# Altium footprint library ICs.PcbLib: 31 footprints (part 1 of 2)
Each footprint in its own frame and in the unit in brackets; x right, y up, seen from the top. Pads: shape width x height; smd on the part's side, far side on the other; paste and mask are expansions set on the pad; w line width, h text height; cw(c..) or ccw(c..) is an arc to the next point about the centre after c.
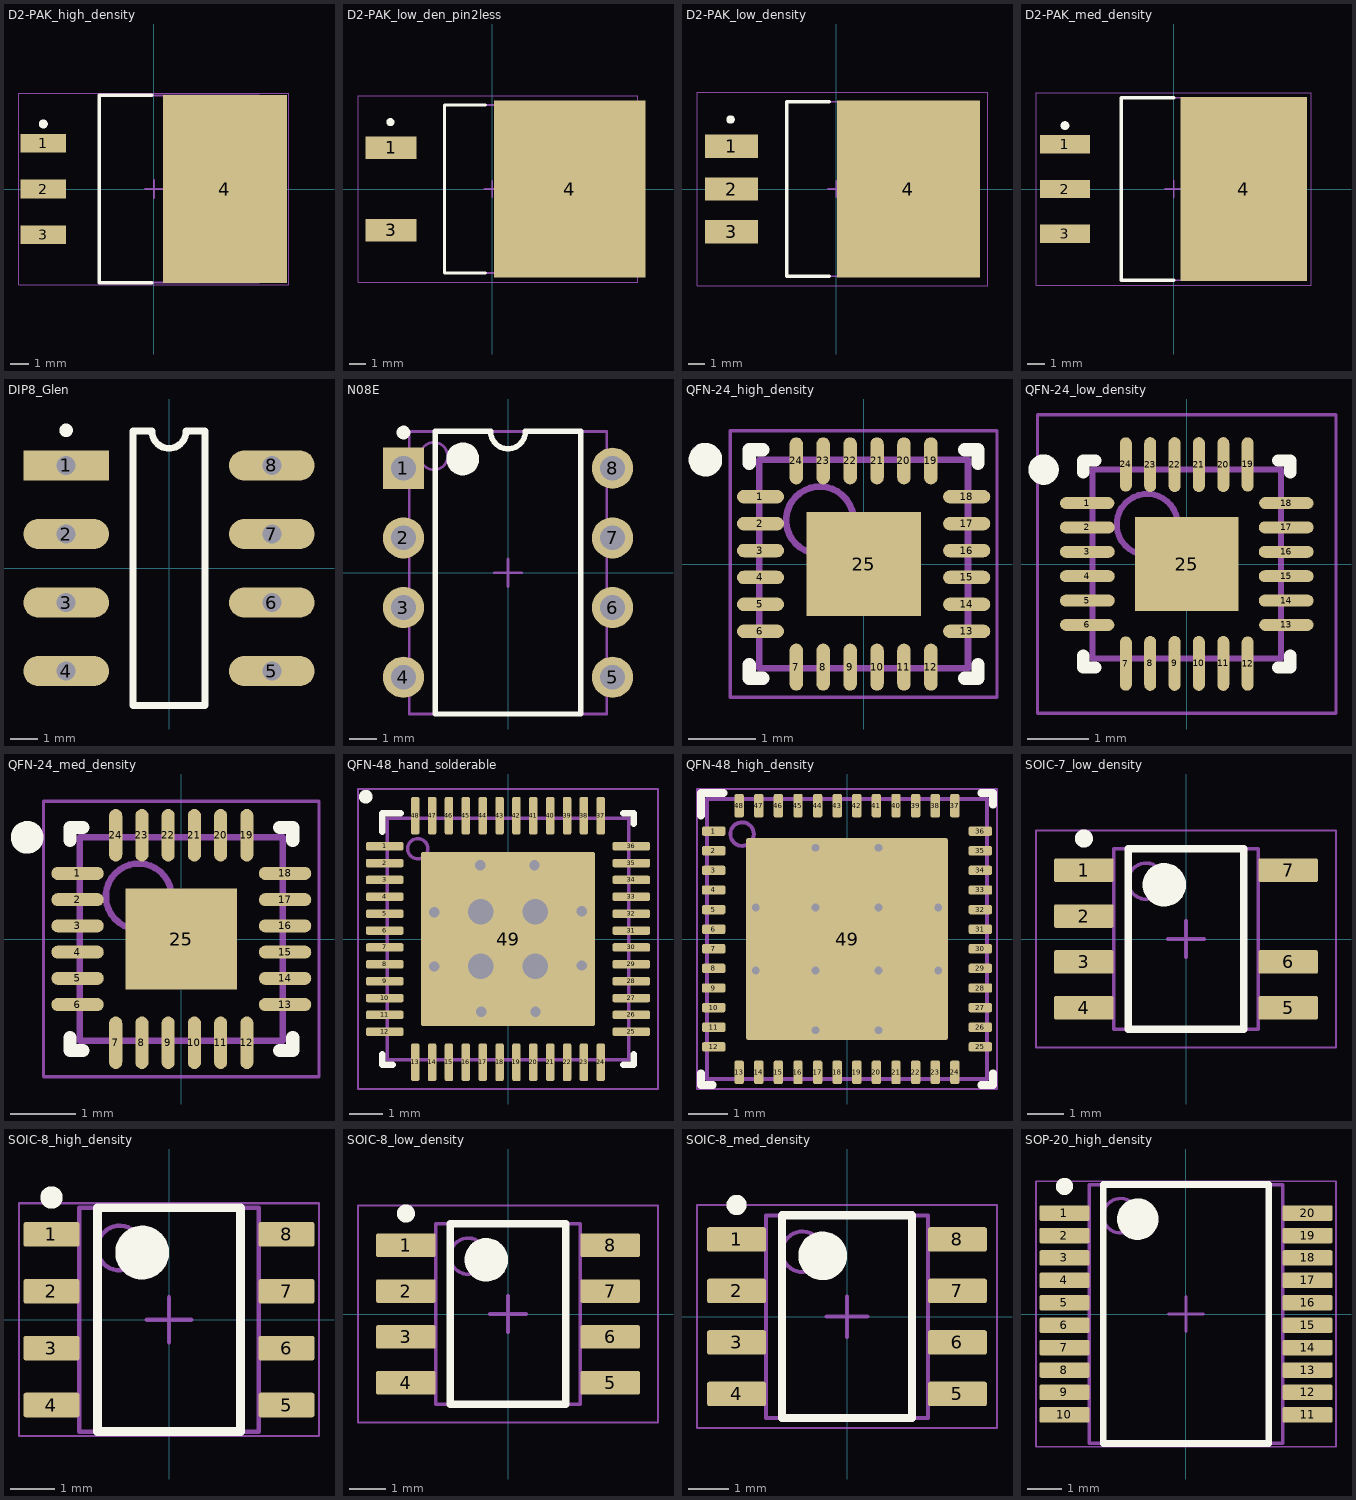
[diagram p0: the footprints below, top view; thin cyan lines are the x and y axes]

## D2-PAK_high_density [mm] "D2-PAK, 3-Leads, Body 10.41x8.89mm, Pitch 2.54mm, IPC High Density"
height 4.64
pads (4):
  rect 2.55x1.05 smd: 1(-6.15,2.54) 2(-6.15,0) 3(-6.15,-2.54)
  rect 6.9x10.45 smd: 4(3.95,0)
Top Overlay:
  circle w0.25: c-6.15,3.615 r0.125
  lines w0.2: -0.127,-5.2 -3.05,-5.2 -3.05,5.2 -0.127,5.2
Mechanical 13:
  lines w0.1: -3.05,-5.2 5.84,-5.2 5.84,5.2 -3.05,5.2 -3.05,-5.2
  text ".Designator" at -1.651,-0.508 h1.2
Mechanical 15:
  lines w0.05: -7.5,-5.325 7.5,-5.325 7.5,5.325 -7.5,5.325 -7.5,-5.325
  lines w0.1: -0.5,0 0.5,0 ; 0,-0.5 0,0.5
3D body "KTT0003B_L.step": height 4.64, standoff 0, extent -6.825,-5.2 7.525,5.2

## D2-PAK_low_den_pin2less [mil] "D2-PAK, 3-Leads, Body 10.41x8.89mm, Pitch 2.54mm, IPC Low Density"
height 182.68
pads (3):
  rect 124.02x55 smd: 1(-246.06,100) 3(-246.06,-100)
  rect 370x430 smd: 4(189,0)
Top Overlay:
  circle w9.84: c-248,163 r4.92
  lines w7.87: -16,-204.72 -116.14,-204.72 -116.14,204.72 -16,204.72
Mechanical 13:
  lines w3.94: -116.14,-204.72 -116.14,204.72 233.86,204.72 233.86,-204.72 -116.14,-204.72
  text ".Designator" at -65,-20 h47.24
Mechanical 15:
  lines w1.97: -326.77,-227.36 -326.77,227.36 355,227.36 355,-227.36 -326.77,-227.36
  lines w3.94: -19.68,0 19.69,0 ; 0,-19.68 0,19.68
3D body "KTT0003B_M.step": height 182.68, standoff 0, extent -262.8,-204.72 302.17,204.72

## D2-PAK_low_density [mm] "D2-PAK, 3-Leads, Body 10.41x8.89mm, Pitch 2.54mm, IPC Low Density"
height 4.64
pads (4):
  rect 3.15x1.397 smd: 1(-6.25,2.54) 2(-6.25,0) 3(-6.25,-2.54)
  rect 8.516x10.55 smd: 4(4.304,0)
Top Overlay:
  circle w0.25: c-6.299,4.14 r0.125
  lines w0.2: -0.406,-5.2 -2.95,-5.2 -2.95,5.2 -0.406,5.2
Mechanical 13:
  lines w0.1: -2.95,-5.2 -2.95,5.2 5.94,5.2 5.94,-5.2 -2.95,-5.2
  text ".Designator" at -1.651,-0.508 h1.2
Mechanical 15:
  lines w0.05: -8.3,-5.775 -8.3,5.775 9.017,5.775 9.017,-5.775 -8.3,-5.775
  lines w0.1: -0.5,0 0.5,0 ; 0,-0.5 0,0.5
3D body "KTT0003B_M.step": height 4.64, standoff 0, extent -6.675,-5.2 7.675,5.2

## D2-PAK_med_density [mm] "D2-PAK, 3-Leads, Body 10.41x8.89mm, Pitch 2.54mm, IPC Medium Density"
height 4.64
pads (4):
  rect 2.85x1.05 smd: 1(-6.2,2.54) 2(-6.2,0) 3(-6.2,-2.54)
  rect 7.2x10.5 smd: 4(4,0)
Top Overlay:
  circle w0.25: c-6.2,3.615 r0.125
  lines w0.2: 0,-5.2 -3,-5.2 -3,5.2 0,5.2
Mechanical 1:
  text ".Designator" at -1.651,-0.508 h1.2
Mechanical 13:
  lines w0.1: -3,-5.2 5.89,-5.2 5.89,5.2 -3,5.2 -3,-5.2
Mechanical 15:
  lines w0.05: -7.85,-5.5 7.85,-5.5 7.85,5.5 -7.85,5.5 -7.85,-5.5
  lines w0.1: -0.5,0 0.5,0 ; 0,-0.5 0,0.5
3D body "KTT0003B_N.step": height 4.64, standoff 0, extent -6.775,-5.2 7.575,5.2

## DIP8_Glen [mil] "Glen's hand-solderable DIP footprint, 300 mil line spacing"
pads (8):
  rect 125x44 hole 28: 1(-150,150)
  oval 125x44 hole 28: 2(-150,50) 3(-150,-50) 4(-150,-150) 5(150,-150) 6(150,-50) 7(150,50) 8(150,150)
Top Overlay:
  circle w9.84: c-150,201.18 r4.92
  lines w10: -52.5,-200 -52.5,200 -25,200 ccw(c0,200) 25,200 52.5,200 52.5,-200 -52.5,-200
  text ".Comment" at 15,-179 h42
3D body: height 200, standoff 20.08, extent -129.92,-199.8 129.92,199.8
3D body: height 104.72, standoff 0, extent -155.31,130.31 -144.69,169.69
3D body: height 115.35, standoff 104.72, extent -155.31,130.31 -129.92,169.69
3D body: height 0, standoff -62.99, extent -155.31,135.83 -144.69,164.17
3D body: height 104.72, standoff 0, extent -155.31,30.32 -144.69,69.69
3D body: height 115.35, standoff 104.72, extent -155.31,30.32 -129.92,69.69
3D body: height 0, standoff -62.99, extent -155.31,35.83 -144.69,64.17
3D body: height 104.72, standoff 0, extent -155.31,-69.69 -144.69,-30.32
3D body: height 115.35, standoff 104.72, extent -155.31,-69.69 -129.92,-30.32
3D body: height 0, standoff -62.99, extent -155.31,-64.17 -144.69,-35.83
3D body: height 104.72, standoff 0, extent -155.31,-169.69 -144.69,-130.31
3D body: height 115.35, standoff 104.72, extent -155.31,-169.69 -129.92,-130.31
3D body: height 0, standoff -62.99, extent -155.31,-164.17 -144.69,-135.83
3D body: height 104.72, standoff 0, extent 144.69,-169.69 155.31,-130.31
3D body: height 115.35, standoff 104.72, extent 129.92,-169.69 155.31,-130.31
3D body: height 0, standoff -62.99, extent 144.69,-164.17 155.31,-135.83
3D body: height 104.72, standoff 0, extent 144.69,-69.69 155.31,-30.32
3D body: height 115.35, standoff 104.72, extent 129.92,-69.69 155.31,-30.32
3D body: height 0, standoff -62.99, extent 144.69,-64.17 155.31,-35.83
3D body: height 104.72, standoff 0, extent 144.69,30.32 155.31,69.69
3D body: height 115.35, standoff 104.72, extent 129.92,30.32 155.31,69.69
3D body: height 0, standoff -62.99, extent 144.69,35.83 155.31,64.17
3D body: height 104.72, standoff 0, extent 144.69,130.31 155.31,169.69
3D body: height 115.35, standoff 104.72, extent 129.92,130.31 155.31,169.69
3D body: height 0, standoff -62.99, extent 144.69,135.83 155.31,164.17

## N08E [mm] "DIP, 8-Pin, Row Spacing 7.62 mm, Pitch 2.54 mm"
height 5.34
pads (8):
  rect 1.5x1.5 hole 0.9: 1(-3.81,3.81)
  round 1.5 hole 0.9: 2(-3.81,1.27) 3(-3.81,-1.27) 4(-3.81,-3.81) 5(3.81,-3.81) 6(3.81,-1.27) 7(3.81,1.27) 8(3.81,3.81)
Top Overlay:
  circle w0.25: c-3.81,5.11 r0.125
  circle w0.6: c-1.65,4.15 r0.3
  lines w0.2: -2.65,-5.15 -2.65,5.15 -0.635,5.15 ccw(c0,5.15) 0.635,5.15 2.65,5.15 2.65,-5.15 -2.65,-5.15
Mechanical 13:
  circle w0.1: c-2.7,4.25 r0.5
  lines w0.1: -3.6,-5.15 -3.6,5.15 3.6,5.15 3.6,-5.15 -3.6,-5.15
Mechanical 15:
  lines w0.1: -0.5,0 0.5,0 ; 0,-0.5 0,0.5
3D body: height 5.33, standoff 0, extent -3.6,-5.15 3.6,5.15

## QFN-24_high_density [mm] "QFN, 24-Leads, Body 3.1x3.1mm, Pitch 0.40mm, Thermal Pad 1.54x1.70mm, IPC High Density"
height 1.05
pads (25):
  oval 0.7x0.2 smd: 1(-1.532,1) 2(-1.532,0.6) 3(-1.532,0.2) 4(-1.532,-0.2) 5(-1.532,-0.6) 6(-1.532,-1) 13(1.532,-1) 14(1.532,-0.6) 15(1.532,-0.2) 16(1.532,0.2) 17(1.532,0.6) 18(1.532,1)
  oval 0.2x0.7 smd: 7(-1,-1.532) 8(-0.6,-1.532) 9(-0.2,-1.532) 10(0.2,-1.532) 11(0.6,-1.532) 12(1,-1.532) 19(1,1.532) 20(0.6,1.532) 21(0.2,1.532) 22(-0.2,1.532) 23(-0.6,1.532) 24(-1,1.532)
  rect 1.7x1.54 smd: 25(0,0)
Top Overlay:
  circle w0.25: c-2.35,1.55 r0.125
  lines w0.2: -1.7,-1.5 -1.7,-1.7 -1.5,-1.7 ; -1.7,1.5 -1.7,1.7 -1.5,1.7 ; 1.5,-1.7 1.7,-1.7 1.7,-1.5 ; 1.5,1.7 1.7,1.7 1.7,1.5
Mechanical 13:
  circle w0.1: c-0.65,0.65 r0.5
  lines w0.1: -1.55,-1.55 1.55,-1.55 1.55,1.55 -1.55,1.55 -1.55,-1.55
Mechanical 15:
  lines w0.05: -1.982,-1.982 1.982,-1.982 1.982,1.982 -1.982,1.982 -1.982,-1.982
  lines w0.1: -0.5,0 0.5,0 ; 0,-0.5 0,0.5
3D body "QFN40P300X300X105_HS-25L.step": height 1.05, standoff 0, extent -1.551,-1.551 1.551,1.551

## QFN-24_low_density [mm] "QFN, 24-Leads, Body 3.1x3.1mm, Pitch 0.40mm, Thermal Pad 1.54x1.70mm, IPC Low Density"
height 1.05
pads (25):
  oval 0.892x0.196 smd: 1(-1.635,1) 6(-1.635,-1) 13(1.635,-1) 18(1.635,1)
  oval 0.9x0.196 smd: 2(-1.632,0.6) 3(-1.632,0.2) 4(-1.632,-0.2) 5(-1.632,-0.6) 14(1.632,-0.6) 15(1.632,-0.2) 16(1.632,0.2) 17(1.632,0.6)
  oval 0.196x0.892 smd: 7(-1,-1.635) 12(1,-1.635) 19(1,1.635) 24(-1,1.635)
  oval 0.196x0.9 smd: 8(-0.6,-1.632) 9(-0.2,-1.632) 10(0.2,-1.632) 11(0.6,-1.632) 20(0.6,1.632) 21(0.2,1.632) 22(-0.2,1.632) 23(-0.6,1.632)
  rect 1.7x1.54 smd: 25(0,0)
Top Overlay:
  circle w0.25: c-2.35,1.55 r0.125
  lines w0.2: -1.7,-1.5 -1.7,-1.7 -1.5,-1.7 ; -1.7,1.5 -1.7,1.7 -1.5,1.7 ; 1.5,-1.7 1.7,-1.7 1.7,-1.5 ; 1.5,1.7 1.7,1.7 1.7,1.5
Mechanical 13:
  circle w0.1: c-0.65,0.65 r0.5
  lines w0.1: -1.55,-1.55 1.55,-1.55 1.55,1.55 -1.55,1.55 -1.55,-1.55
Mechanical 15:
  lines w0.05: -2.45,-2.45 2.45,-2.45 2.45,2.45 -2.45,2.45 -2.45,-2.45
  lines w0.1: -0.5,0 0.5,0 ; 0,-0.5 0,0.5
3D body "QFN40P300X300X105_HS-25L.step": height 1.05, standoff 0, extent -1.551,-1.551 1.551,1.551

## QFN-24_med_density [mm] "QFN, 24-Leads, Body 3.1x3.1mm, Pitch 0.40mm, Thermal Pad 1.54x1.70mm, IPC Medium Density"
height 1.05
pads (25):
  oval 0.8x0.2 smd: 1(-1.582,1) 2(-1.582,0.6) 3(-1.582,0.2) 4(-1.582,-0.2) 5(-1.582,-0.6) 6(-1.582,-1) 13(1.582,-1) 14(1.582,-0.6) 15(1.582,-0.2) 16(1.582,0.2) 17(1.582,0.6) 18(1.582,1)
  oval 0.2x0.8 smd: 7(-1,-1.582) 8(-0.6,-1.582) 9(-0.2,-1.582) 10(0.2,-1.582) 11(0.6,-1.582) 12(1,-1.582) 19(1,1.582) 20(0.6,1.582) 21(0.2,1.582) 22(-0.2,1.582) 23(-0.6,1.582) 24(-1,1.582)
  rect 1.7x1.54 smd: 25(0,0)
Top Overlay:
  circle w0.25: c-2.35,1.55 r0.125
  lines w0.2: -1.7,-1.5 -1.7,-1.7 -1.5,-1.7 ; -1.7,1.5 -1.7,1.7 -1.5,1.7 ; 1.5,-1.7 1.7,-1.7 1.7,-1.5 ; 1.5,1.7 1.7,1.7 1.7,1.5
Mechanical 13:
  circle w0.1: c-0.65,0.65 r0.5
  lines w0.1: -1.55,-1.55 -1.55,1.55 1.55,1.55 1.55,-1.55 -1.55,-1.55
Mechanical 15:
  lines w0.05: -2.1,-2.1 -2.1,2.1 2.1,2.1 2.1,-2.1 -2.1,-2.1
  lines w0.1: -0.5,0 0.5,0 ; 0,-0.5 0,0.5
3D body "QFN40P300X300X105_HS-25L.step": height 1.05, standoff 0, extent -1.551,-1.551 1.551,1.551

## QFN-48_hand_solderable [mm] "QFN, 48-Leads, Body 7x7mm, Pitch 0.5mm, Thermal Pad 5.15X5.15mm, TI recommended"
height 1
pads (49):
  rrect42% 1.108x0.251 smd paste+0.051: 1(-3.654,2.75) 2(-3.654,2.25) 3(-3.654,1.75) 4(-3.654,1.25) 5(-3.654,0.75) 6(-3.654,0.25) 7(-3.654,-0.25) 8(-3.654,-0.75) 9(-3.654,-1.25) 10(-3.654,-1.75) 11(-3.654,-2.25) 12(-3.654,-2.75) 25(3.654,-2.75) 26(3.654,-2.25) 27(3.654,-1.75) 28(3.654,-1.25) 29(3.654,-0.75) 30(3.654,-0.25) 31(3.654,0.25) 32(3.654,0.75) 33(3.654,1.25) 34(3.654,1.75) 35(3.654,2.25) 36(3.654,2.75)
  rrect42% 0.251x1.108 smd paste+0.051: 13(-2.75,-3.654) 14(-2.25,-3.654) 15(-1.75,-3.654) 16(-1.25,-3.654) 17(-0.75,-3.654) 18(-0.25,-3.654) 19(0.25,-3.654) 20(0.75,-3.654) 21(1.25,-3.654) 22(1.75,-3.654) 23(2.25,-3.654) 24(2.75,-3.654) 37(2.75,3.654) 38(2.25,3.654) 39(1.75,3.654) 40(1.25,3.654) 41(0.75,3.654) 42(0.25,3.654) 43(-0.25,3.654) 44(-0.75,3.654) 45(-1.25,3.654) 46(-1.75,3.654) 47(-2.25,3.654) 48(-2.75,3.654)
  rrect2% 5.15x5.15 smd paste-2.6: 49(0,0)
via 0.813,-2.159 diameter 0.61 hole 0.305
via -0.794,-2.159 diameter 0.61 hole 0.305
via 2.184,-0.787 diameter 0.61 hole 0.305
via 0.804,-0.804 diameter 1.27 hole 0.762
via -0.804,-0.804 diameter 1.27 hole 0.762
via -2.184,-0.813 diameter 0.61 hole 0.305
via 2.184,0.82 diameter 0.61 hole 0.305
via 0.804,0.804 diameter 1.27 hole 0.762
via -0.804,0.804 diameter 1.27 hole 0.762
via -2.184,0.794 diameter 0.61 hole 0.305
via 0.787,2.184 diameter 0.61 hole 0.305
via -0.82,2.184 diameter 0.61 hole 0.305
Top Overlay:
  circle w0.254: c-4.216,4.216 r0.076
  lines w0.2: -3.725,-3.425 -3.725,-3.725 -3.425,-3.725 ; -3.725,3.188 -3.725,3.725 -3.188,3.725 ; 3.425,-3.725 3.725,-3.725 3.725,-3.425 ; 3.425,3.725 3.725,3.725 3.725,3.425
Top Paste:
  region: -0.903,-0.903 -2.31,-0.903 -2.31,-2.31 -0.903,-2.31
  rectangle: 0.904,-2.31 2.311,-0.903
  rectangle: -0.703,-2.31 0.704,-0.903
  rectangle: -0.703,0.904 0.704,2.311
  rectangle: 0.904,0.904 2.311,2.311
  region: -0.903,2.311 -2.31,2.311 -2.31,0.904 -0.903,0.904
  region: -0.903,0.704 -2.31,0.704 -2.31,-0.703 -0.903,-0.703
  rectangle: 0.904,-0.703 2.311,0.704
  rectangle: -0.703,-0.703 0.704,0.704
Mechanical 13:
  circle w0.1: c-2.675,2.675 r0.3
  lines w0.1: -3.575,-3.575 3.575,-3.575 3.575,3.575 -3.575,3.575 -3.575,-3.575
  text ".Designator" at -1.854,-0.508 h1.02
Mechanical 15:
  lines w0.05: -4.445,-4.445 -4.445,4.445 4.445,4.445 4.445,-4.445 -4.445,-4.445
  lines w0.1: -0.5,0 0.5,0 ; 0,-0.5 0,0.5
3D body: height 1, standoff 0, extent -3.575,-3.575 3.575,3.575
3D body: height 1.01, standoff 0.5, extent -2.974,2.376 -2.376,2.974

## QFN-48_high_density [mm] "QFN, 48-Leads, Body 7x7mm, Pitch 0.5mm, Thermal Pad 5.15X5.15mm, TI recommended"
height 1
pads (49):
  rrect42% 0.6x0.24 smd: 1(-3.4,2.75) 2(-3.4,2.25) 3(-3.4,1.75) 4(-3.4,1.25) 5(-3.4,0.75) 6(-3.4,0.25) 7(-3.4,-0.25) 8(-3.4,-0.75) 9(-3.4,-1.25) 10(-3.4,-1.75) 11(-3.4,-2.25) 12(-3.4,-2.75) 25(3.4,-2.75) 26(3.4,-2.25) 27(3.4,-1.75) 28(3.4,-1.25) 29(3.4,-0.75) 30(3.4,-0.25) 31(3.4,0.25) 32(3.4,0.75) 33(3.4,1.25) 34(3.4,1.75) 35(3.4,2.25) 36(3.4,2.75)
  rrect42% 0.24x0.6 smd: 13(-2.75,-3.4) 14(-2.25,-3.4) 15(-1.75,-3.4) 16(-1.25,-3.4) 17(-0.75,-3.4) 18(-0.25,-3.4) 19(0.25,-3.4) 20(0.75,-3.4) 21(1.25,-3.4) 22(1.75,-3.4) 23(2.25,-3.4) 24(2.75,-3.4) 37(2.75,3.4) 38(2.25,3.4) 39(1.75,3.4) 40(1.25,3.4) 41(0.75,3.4) 42(0.25,3.4) 43(-0.25,3.4) 44(-0.75,3.4) 45(-1.25,3.4) 46(-1.75,3.4) 47(-2.25,3.4) 48(-2.75,3.4)
  rrect2% 5.15x5.15 smd paste-2.6: 49(0,0)
via -0.804,2.325 diameter 0.5 hole 0.2
via 0.804,2.325 diameter 0.5 hole 0.2
via -2.325,0.804 diameter 0.5 hole 0.2
via -0.804,0.804 diameter 0.5 hole 0.2
via 0.804,0.804 diameter 0.5 hole 0.2
via 2.325,0.804 diameter 0.5 hole 0.2
via -2.325,-0.804 diameter 0.5 hole 0.2
via -0.804,-0.804 diameter 0.5 hole 0.2
via 0.804,-0.804 diameter 0.5 hole 0.2
via 2.325,-0.804 diameter 0.5 hole 0.2
via -0.804,-2.325 diameter 0.5 hole 0.2
via 0.804,-2.325 diameter 0.5 hole 0.2
Top Overlay:
  lines w0.2: -3.725,-3.425 -3.725,-3.725 -3.425,-3.725 ; -3.725,3.15 -3.725,3.725 -3.15,3.725 ; 3.425,-3.725 3.725,-3.725 3.725,-3.425 ; 3.425,3.725 3.725,3.725 3.725,3.425
Top Paste:
  rectangle: -0.703,-0.703 0.704,0.704
  rectangle: 0.904,-0.703 2.311,0.704
  region: -0.903,0.704 -2.31,0.704 -2.31,-0.703 -0.903,-0.703
  region: -0.903,2.311 -2.31,2.311 -2.31,0.904 -0.903,0.904
  rectangle: 0.904,0.904 2.311,2.311
  rectangle: -0.703,0.904 0.704,2.311
  rectangle: -0.703,-2.31 0.704,-0.903
  rectangle: 0.904,-2.31 2.311,-0.903
  region: -0.903,-0.903 -2.31,-0.903 -2.31,-2.31 -0.903,-2.31
Mechanical 1:
  text ".Designator" at -1.854,-0.508 h1.02
Mechanical 13:
  circle w0.1: c-2.675,2.675 r0.3
  lines w0.1: -3.575,-3.575 -3.575,3.575 3.575,3.575 3.575,-3.575 -3.575,-3.575
Mechanical 15:
  lines w0.05: -3.825,-3.825 3.825,-3.825 3.825,3.825 -3.825,3.825 -3.825,-3.825
  lines w0.1: -0.5,0 0.5,0 ; 0,-0.5 0,0.5
3D body: height 1.01, standoff 0.5, extent -2.974,2.376 -2.376,2.974
3D body: height 1, standoff 0, extent -3.575,-3.575 3.575,3.575

## SOIC-7_low_density [mm] "SOIC, 8-Leads, Body 5x4mm, Pitch 1.27mm, IPC Low Density"
height 1.75
pads (7):
  rrect15% 1.65x0.65 smd: 1(-2.825,1.905) 2(-2.825,0.635) 3(-2.825,-0.635) 4(-2.825,-1.905) 5(2.825,-1.905) 6(2.825,-0.635) 7(2.825,1.905)
Top Overlay:
  circle w0.25: c-2.825,2.78 r0.125
  circle w0.6: c-0.6,1.5 r0.3
  lines w0.2: -1.6,-2.5 -1.6,2.5 1.6,2.5 1.6,-2.5 -1.6,-2.5
Mechanical 1:
  text ".Designator" at -1.397,-0.254 h0.6
Mechanical 13:
  circle w0.1: c-1.1,1.6 r0.5
  lines w0.1: -2,-2.5 -2,2.5 2,2.5 2,-2.5 -2,-2.5
Mechanical 15:
  lines w0.05: -4.15,-3 -4.15,3 4.15,3 4.15,-3 -4.15,-3
  lines w0.1: -0.5,0 0.5,0 ; 0,-0.5 0,0.5
3D body "SOIC-8akaD0008AakaM08A.stp": height 1.63, standoff 0, extent -3,-2.45 3,2.45

## SOIC-8_high_density [mm] "SOIC, 8-Leads, Body 5x4mm, Pitch 1.27mm, IPC High Density"
height 1.75
pads (8):
  rrect18% 1.25x0.55 smd: 1(-2.625,1.905) 2(-2.625,0.635) 3(-2.625,-0.635) 4(-2.625,-1.905) 5(2.625,-1.905) 6(2.625,-0.635) 7(2.625,0.635) 8(2.625,1.905)
Top Overlay:
  circle w0.25: c-2.625,2.73 r0.125
  circle w0.6: c-0.6,1.5 r0.3
  lines w0.2: -1.6,-2.5 -1.6,2.5 1.6,2.5 1.6,-2.5 -1.6,-2.5
Mechanical 1:
  text ".Designator" at -1.397,-0.254 h0.6
Mechanical 13:
  circle w0.1: c-1.1,1.6 r0.5
  lines w0.1: -2,-2.5 -2,2.5 2,2.5 2,-2.5 -2,-2.5
Mechanical 15:
  lines w0.05: -3.35,-2.6 -3.35,2.6 3.35,2.6 3.35,-2.6 -3.35,-2.6
  lines w0.1: -0.5,0 0.5,0 ; 0,-0.5 0,0.5
3D body "SOIC-8akaD0008AakaM08A.stp": height 1.63, standoff 0, extent -3,-2.45 3,2.45

## SOIC-8_low_density [mm] "SOIC, 8-Leads, Body 5x4mm, Pitch 1.27mm, IPC Low Density"
height 1.75
pads (8):
  rrect15% 1.65x0.65 smd: 1(-2.825,1.905) 2(-2.825,0.635) 3(-2.825,-0.635) 4(-2.825,-1.905) 5(2.825,-1.905) 6(2.825,-0.635) 7(2.825,0.635) 8(2.825,1.905)
Top Overlay:
  circle w0.25: c-2.825,2.78 r0.125
  circle w0.6: c-0.6,1.5 r0.3
  lines w0.2: -1.6,-2.5 -1.6,2.5 1.6,2.5 1.6,-2.5 -1.6,-2.5
Mechanical 1:
  text ".Designator" at -1.397,-0.254 h0.6
Mechanical 13:
  circle w0.1: c-1.1,1.6 r0.5
  lines w0.1: -2,-2.5 -2,2.5 2,2.5 2,-2.5 -2,-2.5
Mechanical 15:
  lines w0.05: -4.15,-3 -4.15,3 4.15,3 4.15,-3 -4.15,-3
  lines w0.1: -0.5,0 0.5,0 ; 0,-0.5 0,0.5
3D body "SOIC-8akaD0008AakaM08A.stp": height 1.63, standoff 0, extent -3,-2.45 3,2.45

## SOIC-8_med_density [mm] "SOIC, 8-Leads, Body 5x4mm, Pitch 1.27mm, IPC Medium Density"
height 1.75
pads (8):
  rrect17% 1.45x0.6 smd: 1(-2.725,1.905) 2(-2.725,0.635) 3(-2.725,-0.635) 4(-2.725,-1.905) 5(2.725,-1.905) 6(2.725,-0.635) 7(2.725,0.635) 8(2.725,1.905)
Top Overlay:
  circle w0.6: c-0.6,1.5 r0.3
  circle w0.25: c-2.725,2.755 r0.125
  lines w0.2: -1.6,-2.5 1.6,-2.5 1.6,2.5 -1.6,2.5 -1.6,-2.5
Mechanical 1:
  text ".Designator" at -1.397,-0.254 h0.6
Mechanical 13:
  circle w0.1: c-1.1,1.6 r0.5
  lines w0.1: -2,-2.5 2,-2.5 2,2.5 -2,2.5 -2,-2.5
Mechanical 15:
  lines w0.05: -3.7,-2.75 3.7,-2.75 3.7,2.75 -3.7,2.75 -3.7,-2.75
  lines w0.1: -0.5,0 0.5,0 ; 0,-0.5 0,0.5
3D body "SOIC-8akaD0008AakaM08A.stp": height 1.63, standoff 0, extent -3,-2.45 3,2.45

## SOP-20_high_density [mm] "SOP, 20-Leads, Body 5.6x7.5mm, Pitch 0.65mm, IPC High Density"
height 2
pads (20):
  rrect22% 1.45x0.45 smd: 1(-3.525,2.925) 2(-3.525,2.275) 3(-3.525,1.625) 4(-3.525,0.975) 5(-3.525,0.325) 6(-3.525,-0.325) 7(-3.525,-0.975) 8(-3.525,-1.625) 9(-3.525,-2.275) 10(-3.525,-2.925) 11(3.525,-2.925) 12(3.525,-2.275) 13(3.525,-1.625) 14(3.525,-0.975) 15(3.525,-0.325) 16(3.525,0.325) 17(3.525,0.975) 18(3.525,1.625) 19(3.525,2.275) 20(3.525,2.925)
Top Overlay:
  circle w0.25: c-3.525,3.7 r0.125
  circle w0.6: c-1.4,2.75 r0.3
  lines w0.2: -2.4,-3.75 -2.4,3.75 2.4,3.75 2.4,-3.75 -2.4,-3.75
Mechanical 1:
  text ".Designator" at -1.651,-0.381 h1
Mechanical 13:
  circle w0.1: c-1.9,2.85 r0.5
  lines w0.1: -2.8,-3.75 -2.8,3.75 2.8,3.75 2.8,-3.75 -2.8,-3.75
Mechanical 15:
  lines w0.05: -4.35,-3.85 -4.35,3.85 4.35,3.85 4.35,-3.85 -4.35,-3.85
  lines w0.1: -0.5,0 0.5,0 ; 0,-0.5 0,0.5
3D body "DB0020A.stp": height 1.91, standoff -0.03, extent -3.913,-3.6 3.913,3.6